# EAGLE library part LMR16020 (library HASP)
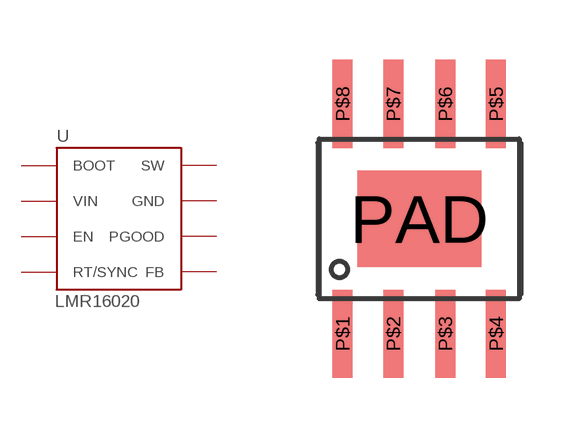
[diagram p0: symbol with the pads of SO8; footprint SO8]

Designator prefix U

## LMR16020  [SO8]
P$1  BOOT
P$2  VIN
P$3  EN
P$4  RT/SYNC
P$5  FB
P$6  PGOOD
P$7  GND
P$8  SW
PAD  GND

## Footprint SO8 (pad centres in mm)
smd 0.5 x 2.2: P$1 -1.92,-2.875; P$2 -0.65,-2.875; P$3 0.65,-2.875; P$4 1.92,-2.875; P$5 1.92,2.875; P$6 0.65,2.875; P$7 -0.65,2.875; P$8 -1.92,2.875
smd 3.1 x 2.4: PAD 0,0